# Altium integrated library Capacitors.IntLib: 2 symbols
Pins are listed as number, name and electrical type; pins without a type are passive.

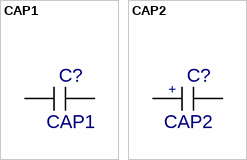
[diagram p0: symbols CAP1 to CAP2]

## CAP1
designator C?
Value: *
footprint CAP1
pins: 1, 2

## CAP2
designator C?
Value: *
footprint CAP2
pins: 1, 2
text: +